# Altium footprint library BM06BSRSSTBLFSN.PcbLib: 1 footprints
Each footprint in its own frame and in the unit in brackets; x right, y up, seen from the top. Pads: shape width x height; smd on the part's side, far side on the other; paste and mask are expansions set on the pad; w line width, h text height; cw(c..) or ccw(c..) is an arc to the next point about the centre after c.
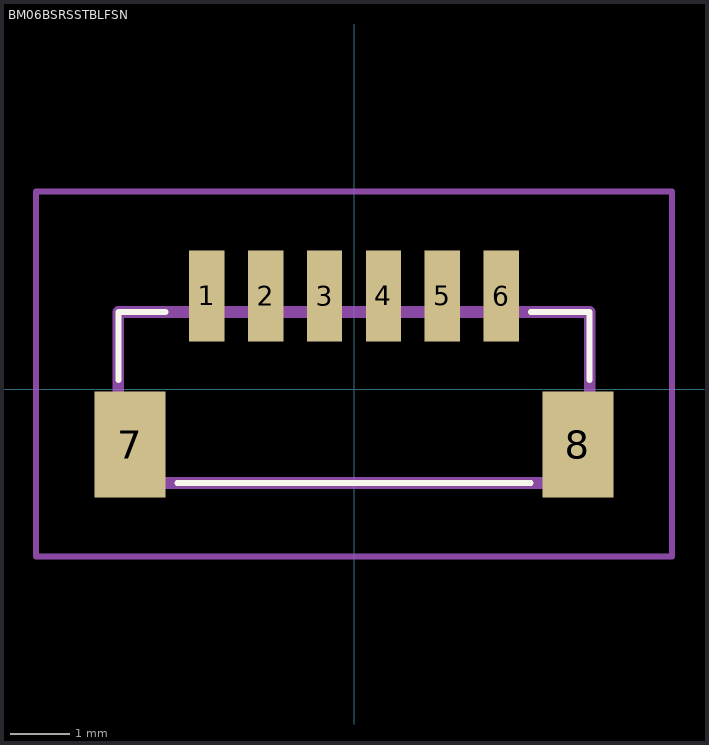
[diagram p0: the footprint, top view; thin cyan lines are the x and y axes]

## BM06BSRSSTBLFSN [mm]
pads (8):
  rect 0.6x1.55 smd: 1(-2.5,1.588) 2(-1.5,1.588) 3(-0.5,1.588) 4(0.5,1.588) 5(1.5,1.588) 6(2.5,1.588)
  rect 1.2x1.8 smd: 7(-3.8,-0.937) 8(3.8,-0.937)
Top Overlay:
  lines w0.1: -4,0.163 -4,1.313 -3.2,1.313 ; -3,-1.587 3,-1.587 ; 3,1.313 4,1.313 4,0.363 4,0.163
Mechanical 15:
  lines w0.2: -4,-1.587 4,-1.587 4,1.313 -4,1.313 -4,-1.587
Mechanical 20:
  lines w0.1: -5.4,-2.837 5.4,-2.837 5.4,3.363 -5.4,3.363 -5.4,-2.837